# Altium schematic symbol library WiFi_MLSoC.SchLib: 1 symbol
Pins are listed as number, name and electrical type; pins without a type are passive.

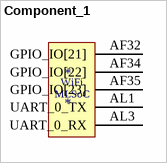
[diagram p0: symbol Component_1]

## Component_1
designator *
pins: AF32 GPIO_IO[21], AF34 GPIO_IO[22], AF35 GPIO_IO[23], AL1 UART_0_TX, AL3 UART_0_RX
text: WiFi; MLSoC